# Altium footprint library ICs.PcbLib: 66 footprints (part 5 of 5)
Each footprint in its own frame and in the unit in brackets; x right, y up, seen from the top. Pads: shape width x height; smd on the part's side, far side on the other; paste and mask are expansions set on the pad; w line width, h text height; cw(c..) or ccw(c..) is an arc to the next point about the centre after c.
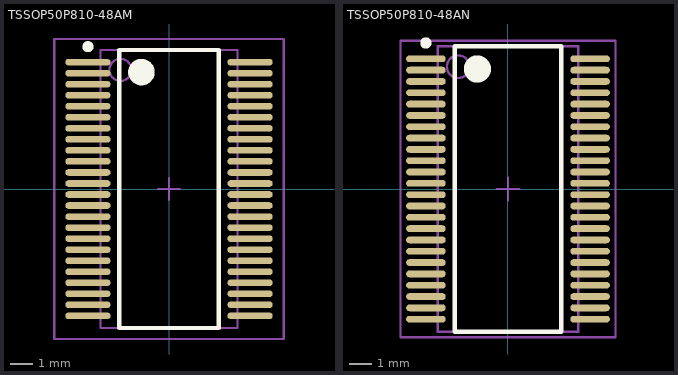
[diagram p4: the footprints below, top view; thin cyan lines are the x and y axes]

## TSSOP50P810-48AM [mm] "TSSOP, 48-Leads, Body 12.5x6.1mm, Pitch 0.5mm, IPC Low Density"
height 1.2
pads (48):
  oval 2.05x0.3 smd: 1(-3.675,5.75) 2(-3.675,5.25) 3(-3.675,4.75) 4(-3.675,4.25) 5(-3.675,3.75) 6(-3.675,3.25) 7(-3.675,2.75) 8(-3.675,2.25) 9(-3.675,1.75) 10(-3.675,1.25) 11(-3.675,0.75) 12(-3.675,0.25) 13(-3.675,-0.25) 14(-3.675,-0.75) 15(-3.675,-1.25) 16(-3.675,-1.75) 17(-3.675,-2.25) 18(-3.675,-2.75) 19(-3.675,-3.25) 20(-3.675,-3.75) 21(-3.675,-4.25) 22(-3.675,-4.75) 23(-3.675,-5.25) 24(-3.675,-5.75) 25(3.675,-5.75) 26(3.675,-5.25) 27(3.675,-4.75) 28(3.675,-4.25) 29(3.675,-3.75) 30(3.675,-3.25) 31(3.675,-2.75) 32(3.675,-2.25) 33(3.675,-1.75) 34(3.675,-1.25) 35(3.675,-0.75) 36(3.675,-0.25) 37(3.675,0.25) 38(3.675,0.75) 39(3.675,1.25) 40(3.675,1.75) 41(3.675,2.25) 42(3.675,2.75) 43(3.675,3.25) 44(3.675,3.75) 45(3.675,4.25) 46(3.675,4.75) 47(3.675,5.25) 48(3.675,5.75)
Top Overlay:
  circle w0.25: c-3.675,6.45 r0.125
  circle w0.6: c-1.25,5.3 r0.3
  lines w0.2: -2.25,-6.3 -2.25,6.3 2.25,6.3 2.25,-6.3 -2.25,-6.3
Mechanical 13:
  circle w0.1: c-2.2,5.4 r0.5
  lines w0.1: -3.1,-6.3 -3.1,6.3 3.1,6.3 3.1,-6.3 -3.1,-6.3
Mechanical 15:
  lines w0.1: -0.5,0 0.5,0 ; 0,-0.5 0,0.5 ; -5.2,-6.8 -5.2,6.8 5.2,6.8 5.2,-6.8 -5.2,-6.8
3D body: height 1.2, standoff 0, extent -3.1,-6.3 3.1,6.3

## TSSOP50P810-48AN [mm] "TSSOP, 48-Leads, Body 12.5x6.1mm, Pitch 0.5mm, IPC Medium Density"
height 1.2
pads (48):
  oval 1.75x0.3 smd: 1(-3.625,5.75) 2(-3.625,5.25) 3(-3.625,4.75) 4(-3.625,4.25) 5(-3.625,3.75) 6(-3.625,3.25) 7(-3.625,2.75) 8(-3.625,2.25) 9(-3.625,1.75) 10(-3.625,1.25) 11(-3.625,0.75) 12(-3.625,0.25) 13(-3.625,-0.25) 14(-3.625,-0.75) 15(-3.625,-1.25) 16(-3.625,-1.75) 17(-3.625,-2.25) 18(-3.625,-2.75) 19(-3.625,-3.25) 20(-3.625,-3.75) 21(-3.625,-4.25) 22(-3.625,-4.75) 23(-3.625,-5.25) 24(-3.625,-5.75) 25(3.625,-5.75) 26(3.625,-5.25) 27(3.625,-4.75) 28(3.625,-4.25) 29(3.625,-3.75) 30(3.625,-3.25) 31(3.625,-2.75) 32(3.625,-2.25) 33(3.625,-1.75) 34(3.625,-1.25) 35(3.625,-0.75) 36(3.625,-0.25) 37(3.625,0.25) 38(3.625,0.75) 39(3.625,1.25) 40(3.625,1.75) 41(3.625,2.25) 42(3.625,2.75) 43(3.625,3.25) 44(3.625,3.75) 45(3.625,4.25) 46(3.625,4.75) 47(3.625,5.25) 48(3.625,5.75)
Top Overlay:
  circle w0.25: c-3.625,6.45 r0.125
  circle w0.6: c-1.35,5.3 r0.3
  lines w0.2: -2.35,-6.3 -2.35,6.3 2.35,6.3 2.35,-6.3 -2.35,-6.3
Mechanical 13:
  circle w0.1: c-2.2,5.4 r0.5
  lines w0.1: -3.1,-6.3 -3.1,6.3 3.1,6.3 3.1,-6.3 -3.1,-6.3
Mechanical 15:
  lines w0.1: -0.5,0 0.5,0 ; 0,-0.5 0,0.5 ; -4.75,-6.55 -4.75,6.55 4.75,6.55 4.75,-6.55 -4.75,-6.55
3D body: height 1.2, standoff 0, extent -3.1,-6.3 3.1,6.3